# Altium footprint library rf_lib_pcb.PcbLib: 38 footprints (part 2 of 3)
Each footprint in its own frame and in the unit in brackets; x right, y up, seen from the top. Pads: shape width x height; smd on the part's side, far side on the other; paste and mask are expansions set on the pad; w line width, h text height; cw(c..) or ccw(c..) is an arc to the next point about the centre after c.
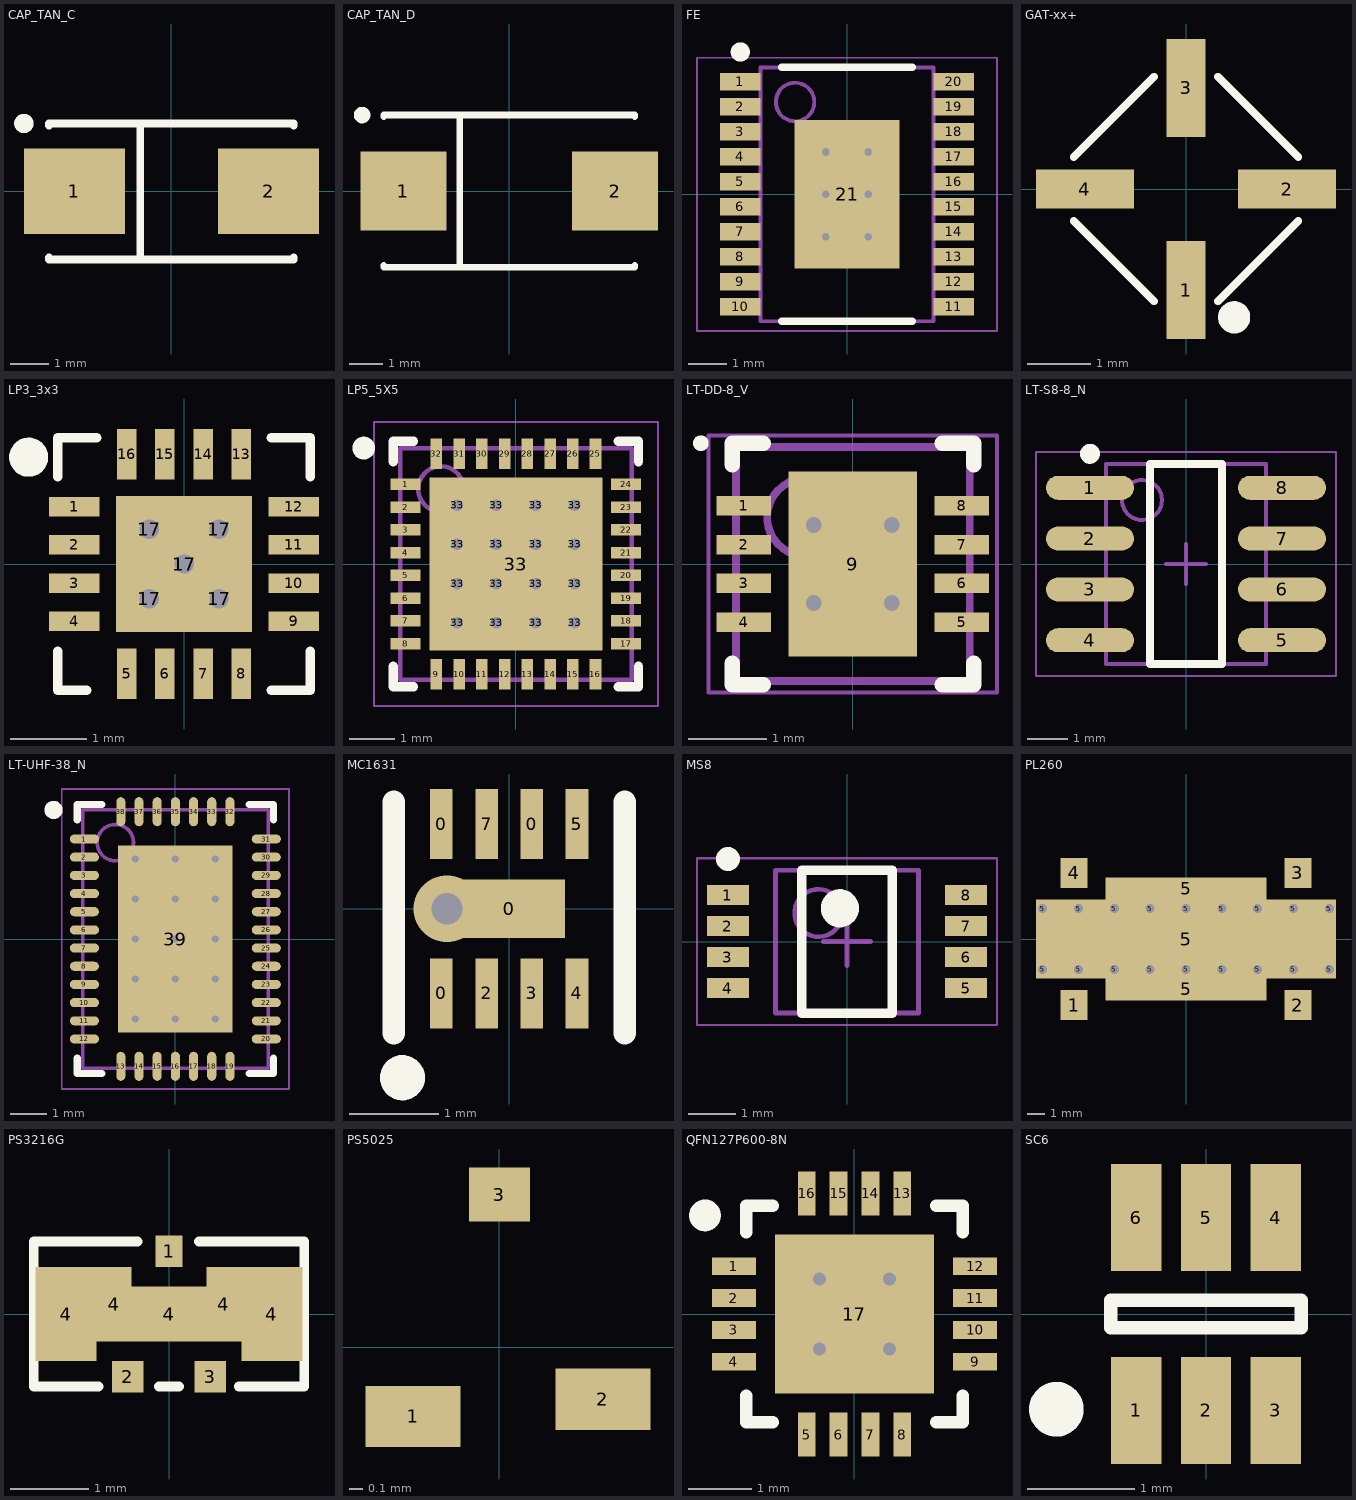
[diagram p1: the footprints below, top view; thin cyan lines are the x and y axes]

## CAP_TAN_C [mm] "Capacitor, SM Tantalum; Body 6.0 x 3.2 mm (LxW typ)"
height 2.8
pads (2):
  rect 2.6x2.2 smd: 1(-2.5,0) 2(2.5,0)
Top Overlay:
  circle w0.25: c-3.8,1.75 r0.125
  lines w0.2: -3.15,-1.7 -3.15,-1.75 3.15,-1.75 3.15,-1.7 ; -3.15,1.7 -3.15,1.75 3.15,1.75 3.15,1.7 ; -0.8,-1.75 -0.8,1.75
3D body: height 2.79, standoff -0.04, extent -3.799,-1.735 3.799,1.778

## CAP_TAN_D [mm] "Capacitor, SM Tantalum; Body 7.3 x 4.3 mm (LxW typ)"
height 3.1
pads (2):
  rect 2.6x2.4 smd: 1(-3.2,0) 2(3.2,0)
Top Overlay:
  circle w0.25: c-4.45,2.3 r0.125
  lines w0.2: -3.8,-2.25 -3.8,-2.3 3.8,-2.3 3.8,-2.25 ; -3.8,2.25 -3.8,2.3 3.8,2.3 3.8,2.25 ; -1.5,-2.3 -1.5,2.3
3D body: height 3.1, standoff -0.04, extent -4.498,-2.324 4.498,2.286

## FE [mm] "Linear Technology 20 TSSOP"
height 1.2
pads (21):
  rect 1.05x0.45 smd: 1(-2.775,2.925) 2(-2.775,2.275) 3(-2.775,1.625) 4(-2.775,0.975) 5(-2.775,0.325) 6(-2.775,-0.325) 7(-2.775,-0.975) 8(-2.775,-1.625) 9(-2.775,-2.275) 10(-2.775,-2.925) 11(2.775,-2.925) 12(2.775,-2.275) 13(2.775,-1.625) 14(2.775,-0.975) 15(2.775,-0.325) 16(2.775,0.325) 17(2.775,0.975) 18(2.775,1.625) 19(2.775,2.275) 20(2.775,2.925)
  rect 2.74x3.86 smd: 21(0,0)
via 0.55,-1.1 diameter 0.5 hole 0.2
via -0.55,-1.1 diameter 0.5 hole 0.2
via 0.55,0 diameter 0.5 hole 0.2
via -0.55,0 diameter 0.5 hole 0.2
via 0.55,1.1 diameter 0.5 hole 0.2
via -0.55,1.1 diameter 0.5 hole 0.2
Top Overlay:
  circle w0.25: c-2.775,3.7 r0.125
  lines w0.2: -1.7,-3.3 1.7,-3.3 ; -1.7,3.3 1.7,3.3
Mechanical 13:
  circle w0.1: c-1.35,2.4 r0.5
  lines w0.1: -2.25,-3.3 2.25,-3.3 2.25,3.3 -2.25,3.3 -2.25,-3.3
Mechanical 15:
  lines w0.05: -3.9,-3.55 3.9,-3.55 3.9,3.55 -3.9,3.55 -3.9,-3.55
  lines w0.1: -0.5,0 0.5,0 ; 0,-0.5 0,0.5
3D body: height 1.2, standoff 0.15, extent -2.25,-3.3 2.25,3.3

## GAT-xx+ [mm] "Fixed Attenuator"
pads (4):
  rect 0.61x1.55 smd: 1(0,-1.6) 3(0,1.6)
  rect 1.55x0.61 smd: 2(1.6,0) 4(-1.6,0)
Top Overlay:
  circle w0.256: c0.762,-2.032 r0.127
  lines w0.125: -1.778,-0.508 -0.508,-1.778 ; -1.778,0.508 -0.508,1.778 ; 0.508,-1.778 1.778,-0.508 ; 0.508,1.778 1.778,0.508
3D body: height 0.89, standoff -0.01, extent -2.121,-2.121 2.121,2.121

## LP3_3x3 [mil] "LP3 (E) PCB Land Pattern Hittite"
pads (22):
  rect 26x10 smd: 1(-56.5,29.53) 2(-56.5,9.84) 3(-56.5,-9.84) 4(-56.5,-29.53) 9(56.5,-29.53) 10(56.5,-9.84) 11(56.5,9.84) 12(56.5,29.53)
  rect 10x26 smd: 5(-29.53,-56.5) 6(-9.84,-56.5) 7(9.84,-56.5) 8(29.53,-56.5) 13(29.53,56.5) 14(9.84,56.5) 15(-9.84,56.5) 16(-29.53,56.5)
  rect 20x20 hole 10: 17(-18,-18) 17(-18,18) 17(0,0) 17(18,-18) 17(18,18)
  rect 70x70 smd mask-6: 17(0,0)
Top Overlay:
  circle w10.08: c-80,55 r5
  lines w4.92: -65,-45 -65,-65 -50,-65 ; -65,45 -65,65 -45,65 ; 45,-65 65,-65 65,-45 ; 45,65 65,65 65,45
3D body: height 39.37, standoff 1.97, extent -59.06,-59.06 59.06,59.06

## LP5_5X5 [mil] "32 Lead 5 x 5 mm QfN Package: 25 mm"
pads (49):
  rect 26x10 smd: 1(-95.5,68.9) 2(-95.5,49.21) 3(-95.5,29.53) 4(-95.5,9.84) 5(-95.5,-9.84) 6(-95.5,-29.53) 7(-95.5,-49.21) 8(-95.5,-68.9) 17(95.5,-68.9) 18(95.5,-49.21) 19(95.5,-29.53) 20(95.5,-9.84) 21(95.5,9.84) 22(95.5,29.53) 23(95.5,49.21) 24(95.5,68.9)
  rect 10x26 smd: 9(-68.9,-95.5) 10(-49.21,-95.5) 11(-29.53,-95.5) 12(-9.84,-95.5) 13(9.84,-95.5) 14(29.53,-95.5) 15(49.21,-95.5) 16(68.9,-95.5) 25(68.9,95.5) 26(49.21,95.5) 27(29.53,95.5) 28(9.84,95.5) 29(-9.84,95.5) 30(-29.53,95.5) 31(-49.21,95.5) 32(-68.9,95.5)
  round 15 hole 10: 33(-51,-51) 33(-51,-17) 33(-51,17) 33(-51,51) 33(-17,-51) 33(-17,-17) 33(-17,17) 33(-17,51) 33(17,-51) 33(17,-17) 33(17,17) 33(17,51) 33(51,-51) 33(51,-17) 33(51,17) 33(51,51)
  rect 150x150 smd mask-6: 33(0,0)
Top Overlay:
  circle w9.84: c-131.89,100.39 r4.92
  lines w7.87: -106.3,-88.58 -106.3,-106.3 -88.58,-106.3 ; -106.3,88.58 -106.3,106.3 -88.58,106.3 ; 88.58,-106.3 106.3,-106.3 106.3,-88.58 ; 88.58,106.3 106.3,106.3 106.3,88.58
Mechanical 13:
  circle w3.94: c-64.96,64.96 r19.68
  lines w3.94: -100.39,-100.39 -100.39,100.39 100.39,100.39 100.39,-100.39 -100.39,-100.39
Mechanical 15:
  lines w1.97: -123.03,-123.03 -123.03,123.03 123.03,123.03 123.03,-123.03 -123.03,-123.03
  lines w3.94: -19.68,0 19.68,0 ; 0,-19.68 0,19.68
3D body: height 39.37, standoff 1.97, extent -100.79,-100.79 100,100

## LT-DD-8_V [mm] "SON, 8-Leads, Body 3x3mm, Pitch 0.5mm, Thermal Pad 1.65x2.38 mm"
height 0.8
pads (9):
  rect 0.7x0.25 smd mask+0.102: 1(-1.4,0.75) 2(-1.4,0.25) 3(-1.4,-0.25) 4(-1.4,-0.75) 5(1.4,-0.75) 6(1.4,-0.25) 7(1.4,0.25) 8(1.4,0.75)
  rect 1.65x2.38 smd mask+0.102: 9(0,0)
via 0.5,-0.5 diameter 0.5 hole 0.2
via -0.5,-0.5 diameter 0.5 hole 0.2
via 0.5,0.5 diameter 0.5 hole 0.2
via -0.5,0.5 diameter 0.5 hole 0.2
Top Overlay:
  circle w0.1: c-1.95,1.55 r0.05
  lines w0.2: -1.55,-1.275 -1.55,-1.55 -1.15,-1.55 ; -1.55,1.275 -1.55,1.55 -1.15,1.55 ; 1.15,-1.55 1.55,-1.55 1.55,-1.275 ; 1.15,1.55 1.55,1.55 1.55,1.275
Mechanical 13:
  circle w0.1: c-0.6,0.6 r0.5
  lines w0.1: -1.5,-1.5 1.5,-1.5 1.5,1.5 -1.5,1.5 -1.5,-1.5
Mechanical 15:
  lines w0.05: -1.85,-1.65 1.85,-1.65 1.85,1.65 -1.85,1.65 -1.85,-1.65
  lines w0.1: -0.5,0 0.5,0 ; 0,-0.5 0,0.5
3D body: height 0.8, standoff 0, extent -1.5,-1.5 1.5,1.5

## LT-S8-8_N [mm] "SOIC, 8-Leads, Body 5x4mm, Pitch 1.27mm, IPC Medium Density"
height 1.76
pads (8):
  oval 2.2x0.6 smd: 1(-2.4,1.905) 2(-2.4,0.635) 3(-2.4,-0.635) 4(-2.4,-1.905) 5(2.4,-1.905) 6(2.4,-0.635) 7(2.4,0.635) 8(2.4,1.905)
Top Overlay:
  circle w0.25: c-2.4,2.755 r0.125
  lines w0.2: -0.9,-2.5 -0.9,2.5 0.9,2.5 0.9,-2.5 -0.9,-2.5
Mechanical 13:
  circle w0.1: c-1.1,1.6 r0.5
  lines w0.1: -2,-2.5 -2,2.5 2,2.5 2,-2.5 -2,-2.5
Mechanical 15:
  lines w0.05: -3.75,-2.8 -3.75,2.8 3.75,2.8 3.75,-2.8 -3.75,-2.8
  lines w0.1: -0.5,0 0.5,0 ; 0,-0.5 0,0.5
3D body: height 1.76, standoff 0.1, extent -2,-2.5 2,2.5

## LT-UHF-38_N [mm] "QFN, 38-Leads, Body 7.1x5.1mm, Pitch 0.5mm, Thermal Pad 3.15x5.15mm, IPC Medium Density"
height 0.8
pads (39):
  oval 0.8x0.25 smd: 1(-2.5,2.75) 2(-2.5,2.25) 3(-2.5,1.75) 4(-2.5,1.25) 5(-2.5,0.75) 6(-2.5,0.25) 7(-2.5,-0.25) 8(-2.5,-0.75) 9(-2.5,-1.25) 10(-2.5,-1.75) 11(-2.5,-2.25) 12(-2.5,-2.75) 20(2.5,-2.75) 21(2.5,-2.25) 22(2.5,-1.75) 23(2.5,-1.25) 24(2.5,-0.75) 25(2.5,-0.25) 26(2.5,0.25) 27(2.5,0.75) 28(2.5,1.25) 29(2.5,1.75) 30(2.5,2.25) 31(2.5,2.75)
  oval 0.25x0.8 smd: 13(-1.5,-3.5) 14(-1,-3.5) 15(-0.5,-3.5) 16(0,-3.5) 17(0.5,-3.5) 18(1,-3.5) 19(1.5,-3.5) 32(1.5,3.5) 33(1,3.5) 34(0.5,3.5) 35(0,3.5) 36(-0.5,3.5) 37(-1,3.5) 38(-1.5,3.5)
  rect 3.15x5.15 smd: 39(0,0)
via -1.1,2.2 diameter 0.5 hole 0.2
via 0,2.2 diameter 0.5 hole 0.2
via 1.1,2.2 diameter 0.5 hole 0.2
via -1.1,1.1 diameter 0.5 hole 0.2
via 0,1.1 diameter 0.5 hole 0.2
via 1.1,1.1 diameter 0.5 hole 0.2
via -1.1,0 diameter 0.5 hole 0.2
via 0,0 diameter 0.5 hole 0.2
via 1.1,0 diameter 0.5 hole 0.2
via -1.1,-1.1 diameter 0.5 hole 0.2
via 0,-1.1 diameter 0.5 hole 0.2
via 1.1,-1.1 diameter 0.5 hole 0.2
via -1.1,-2.2 diameter 0.5 hole 0.2
via 0,-2.2 diameter 0.5 hole 0.2
via 1.1,-2.2 diameter 0.5 hole 0.2
Top Overlay:
  circle w0.25: c-3.35,3.55 r0.125
  lines w0.2: -2.7,-3.275 -2.7,-3.7 -2.025,-3.7 ; -2.7,3.275 -2.7,3.7 -2.025,3.7 ; 2.025,-3.7 2.7,-3.7 2.7,-3.275 ; 2.025,3.7 2.7,3.7 2.7,3.275
Mechanical 13:
  circle w0.1: c-1.65,2.65 r0.5
  lines w0.1: -2.55,-3.55 -2.55,3.55 2.55,3.55 2.55,-3.55 -2.55,-3.55
Mechanical 15:
  lines w0.05: -3.125,-4.125 -3.125,4.125 3.125,4.125 3.125,-4.125 -3.125,-4.125
  lines w0.1: -0.5,0 0.5,0 ; 0,-0.5 0,0.5
3D body: height 0.8, standoff 0, extent -2.55,-3.55 2.55,3.55

## MC1631 [mil]
pads (9):
  rect 10x31 smd: 0(-30,-37.5) 0(-30,37.5) 0(10,37.5) 2(-10,-37.5) 3(10,-37.5) 4(30,-37.5) 5(30,37.5) 7(-10,37.5)
  rect 49.37x25.98 smd: 0(0,0)
via -27.56,0 diameter 29.53 hole 13.78
Top Overlay:
  circle w10: c-47.24,-74.8 r5
  lines w10: -51.18,-55.12 -51.18,47.24 ; 51.18,-55.12 51.18,47.24
3D body: height 0, standoff 0, extent -75.39,-90.39 -64.61,-79.61
3D body: height 22, standoff 1, extent -43,-53 43,53
3D body: height 8, standoff 0, extent -35,-53.5 -25,-50.5
3D body: height 8, standoff 0, extent -15,-53.5 -5,-50.5
3D body: height 8, standoff 0, extent 5,-53.5 15,-50.5
3D body: height 8, standoff 0, extent 25,-53.5 35,-50.5
3D body: height 8, standoff 0, extent 25,50.5 35,53.5
3D body: height 8, standoff 0, extent 5,50.5 15,53.5
3D body: height 8, standoff 0, extent -15,50.5 -5,53.5
3D body: height 8, standoff 0, extent -35,50.5 -25,53.5

## MS8 [mm] "Linear Technology MSOP8"
height 1.1
pads (8):
  rect 0.889x0.42 smd: 1(-2.5,0.975) 2(-2.5,0.325) 3(-2.5,-0.325) 4(-2.5,-0.975) 5(2.5,-0.975) 6(2.5,-0.325) 7(2.5,0.325) 8(2.5,0.975)
Top Overlay:
  circle w0.4: c-0.15,0.7 r0.2
  circle w0.25: c-2.5,1.735 r0.125
  lines w0.2: -0.95,-1.5 0.95,-1.5 0.95,1.5 -0.95,1.5 -0.95,-1.5
Mechanical 13:
  circle w0.1: c-0.6,0.6 r0.5
  lines w0.1: -1.5,-1.5 1.5,-1.5 1.5,1.5 -1.5,1.5 -1.5,-1.5
Mechanical 15:
  lines w0.05: -3.15,-1.75 3.15,-1.75 3.15,1.75 -3.15,1.75 -3.15,-1.75
  lines w0.1: -0.5,0 0.5,0 ; 0,-0.5 0,0.5
3D body: height 1.1, standoff 0.15, extent -1.5,-1.5 1.5,1.5

## PL260 [mil] "SYBD-18-142HP+  CASE STYLE: JB1233"
pads (25):
  rect 60x67 smd mask+0: 1(-250,-147.5) 2(250,-147.5) 3(250,147.5) 4(-250,147.5)
  round 21 hole 20: 5(-320,-68) 5(-320,68) 5(-240,-68) 5(-240,68) 5(-160,-68) 5(-160,68) 5(-80,-68) 5(-80,68) 5(0,-68) 5(0,68) 5(80,-68) 5(80,68) 5(160,-68) 5(160,68) 5(240,-68) 5(240,68) 5(320,-68) 5(320,68)
  rect 360x50 smd: 5(0,-112.5) 5(0,112.5)
  rect 670x176 smd: 5(0,0)
Top Solder:
  rectangle: -180,-137.5 180,-87.5
  rectangle: -180,87.5 180,137.5
  rectangle: -335,-45 335,45

## PS3216G [mm]
pads (8):
  rect 0.35x0.4 smd: 1(0,0.8)
  rect 0.4x0.4 smd: 2(-0.525,-0.8) 3(0.525,-0.8)
  rect 0.775x1.2 smd: 4(-1.312,0) 4(1.312,0)
  rect 0.45x0.95 smd: 4(-0.7,0.125) 4(0.7,0.125)
  rect 0.95x0.7 smd: 4(0,0)
Top Overlay:
  lines w0.125: -0.9,-0.925 -1.725,-0.925 -1.725,0.925 -0.4,0.925 ; -0.127,-0.925 0.127,-0.925 ; 0.381,0.925 1.725,0.925 1.725,-0.925 0.889,-0.925
3D body: height 0.5, standoff 0.1, extent -1.6,-0.8 1.6,0.8

## PS5025 [mm]
pads (3):
  rect 0.7x0.45 smd: 1(-0.635,-0.508) 2(0.762,-0.381)
  rect 0.45x0.4 smd: 3(0,1.125)

## QFN127P600-8N [mm]
height 1
pads (17):
  rect 0.69x0.28 smd: 1(-1.895,0.75) 2(-1.895,0.25) 3(-1.895,-0.25) 4(-1.895,-0.75) 9(1.895,-0.75) 10(1.895,-0.25) 11(1.895,0.25) 12(1.895,0.75)
  rect 0.28x0.69 smd: 5(-0.75,-1.895) 6(-0.25,-1.895) 7(0.25,-1.895) 8(0.75,-1.895) 13(0.75,1.895) 14(0.25,1.895) 15(-0.25,1.895) 16(-0.75,1.895)
  rect 2.5x2.5 smd: 17(0,0)
via 0.55,-0.55 diameter 0.5 hole 0.2
via -0.55,-0.55 diameter 0.5 hole 0.2
via 0.55,0.55 diameter 0.5 hole 0.2
via -0.55,0.55 diameter 0.5 hole 0.2
Top Overlay:
  circle w0.25: c-2.35,1.55 r0.125
  lines w0.2: -1.7,-1.29 -1.7,-1.7 -1.29,-1.7 ; -1.7,1.29 -1.7,1.7 -1.29,1.7 ; 1.29,-1.7 1.7,-1.7 1.7,-1.29 ; 1.29,1.7 1.7,1.7 1.7,1.29
3D body: height 1, standoff 0, extent -1.5,-1.476 1.5,1.524

## SC6 [mm] "6-Lead Plastic SC70"
pads (6):
  rect 0.47x1 smd: 1(-0.65,-0.9) 2(0,-0.9) 3(0.65,-0.9) 4(0.65,0.9) 5(0,0.9) 6(-0.65,0.9)
Top Overlay:
  circle w0.256: c-1.397,-0.889 r0.127
  lines w0.125: -0.889,-0.127 0.889,-0.127 0.889,0.127 -0.889,0.127 -0.889,-0.127
3D body: height 0.94, standoff -0.01, extent -1.016,-1.05 0.984,1.05